# EAGLE library part TSL320R (library selwx_parts)
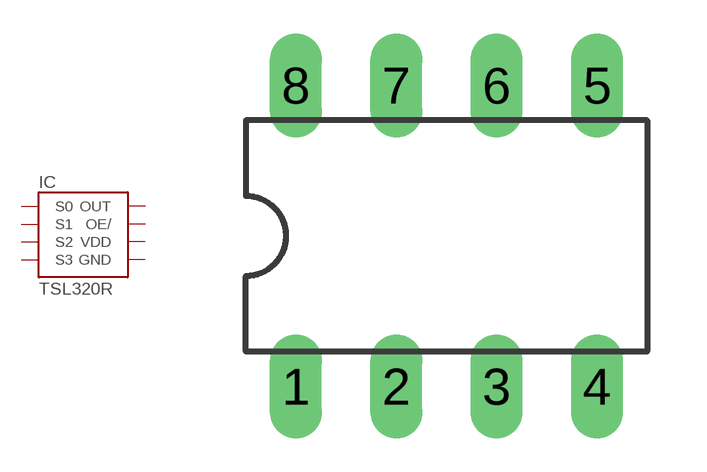
[diagram p2: symbol with the pads of DIL08; footprint DIL08]

Designator prefix IC

## TSL320R  [DIL08]
1  S0  in
2  S1  in
3  OE/  in
4  GND  pwr
5  VDD  pwr
6  OUT  out
7  S2  in
8  S3  in

## Footprint DIL08 (pad centres in mm)
Dual In Line Package
drill 0.813 long: 1 -3.81,-3.81; 2 -1.27,-3.81; 3 1.27,-3.81; 4 3.81,-3.81; 5 3.81,3.81; 6 1.27,3.81; 7 -1.27,3.81; 8 -3.81,3.81